# EAGLE library part AS1108 (library wheat)
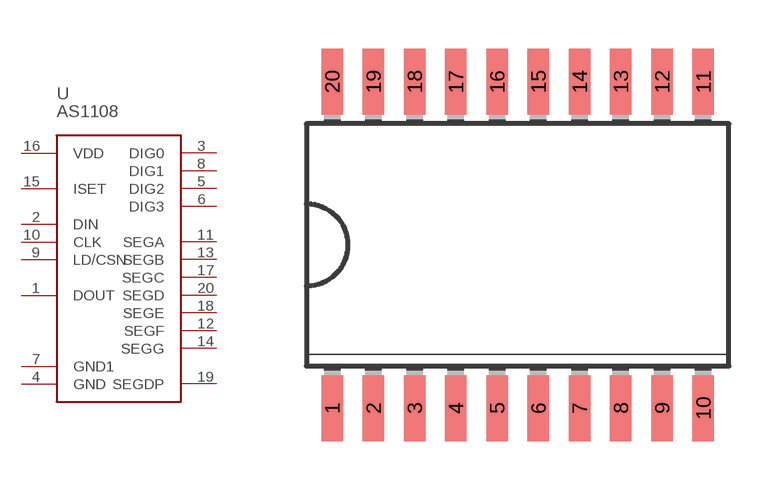
[diagram p267: symbol with the pads of SO20W; footprint SO20W]

Designator prefix -

## AS1108WL  [SO20W]
1  DOUT
2  DIN
3  DIG0
4  GND
5  DIG2
6  DIG3
7  GND1
8  DIG1
9  LD/CSN
10  CLK
11  SEGA
12  SEGF
13  SEGB
14  SEGG
15  ISET
16  VDD
17  SEGC
18  SEGE
19  SEGDP
20  SEGD

## Footprint SO20W (pad centres in mm)
smd 0.66 x 2.032: 1 -5.715,-5.029; 2 -4.445,-5.029; 3 -3.175,-5.029; 4 -1.905,-5.029; 5 -0.635,-5.029; 6 0.635,-5.029; 7 1.905,-5.029; 8 3.175,-5.029; 9 4.445,-5.029; 10 5.715,-5.029; 11 5.715,5.029; 12 4.445,5.029; 13 3.175,5.029; 14 1.905,5.029; 15 0.635,5.029; 16 -0.635,5.029; 17 -1.905,5.029; 18 -3.175,5.029; 19 -4.445,5.029; 20 -5.715,5.029